# Altium footprint library PcbLib1.PcbLib: 10 footprints
Each footprint in its own frame and in the unit in brackets; x right, y up, seen from the top. Pads: shape width x height; smd on the part's side, far side on the other; paste and mask are expansions set on the pad; w line width, h text height; cw(c..) or ccw(c..) is an arc to the next point about the centre after c.
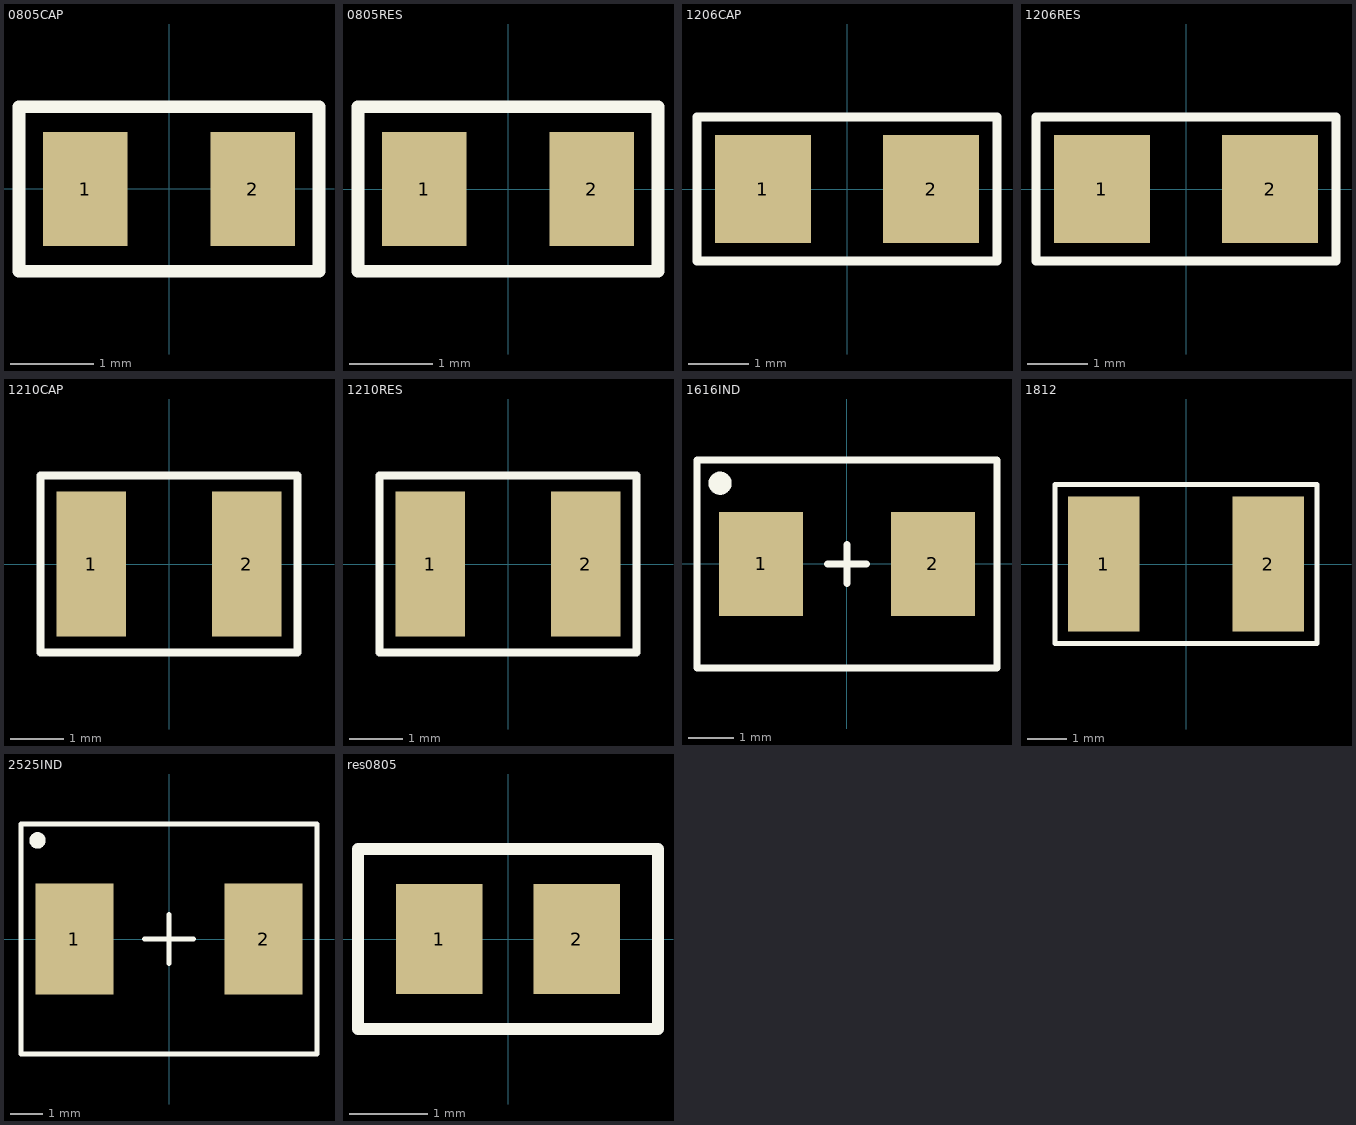
[diagram p0: the footprints below, top view; thin cyan lines are the x and y axes]

## 0805CAP [mil] "Chip Capacitor; Body 2.0 x 1.2 mm (LxW typ)"
height 51.18
pads (2):
  rect 40x54 smd: 1(-39.6,0) 2(39.6,0)
Top Overlay:
  lines w6: -71,-39 -71,39 71,39 71,-39 -71,-39
3D body: height 0, standoff 0, extent -71,-39 71,39
3D body: height 30.79, standoff 0, extent -39.37,-24.6 39.37,24.61

## 0805RES [mil] "Chip Resistor Body 2.0 x 1.2 mm (LxW typ)"
height 25.98
pads (2):
  rect 40x54 smd: 1(-39.6,0) 2(39.6,0)
Top Overlay:
  lines w6: -71,-39 -71,39 71,39 71,-39 -71,-39
3D body: height 18.66, standoff 0, extent -39.37,-24.65 39.37,24.65
3D body: height 0, standoff 0, extent -71,-39 71,39

## 1206CAP [mm] "Chip Capacitor; Body 3.2 x 1.6 mm (LxW typ)"
height 1.5
pads (2):
  rect 1.6x1.8 smd: 1(-1.4,0) 2(1.4,0)
Top Overlay:
  lines w0.152: -2.5,-1.2 2.5,-1.2 2.5,1.2 -2.5,1.2 -2.5,-1.2
3D body: height 1, standoff 0, extent -1.6,-0.8 1.6,0.8

## 1206RES [mm] "Chip Resistor; Body 3.2 x 1.6 mm (LxW typ)"
height 1.5
pads (2):
  rect 1.6x1.8 smd: 1(-1.4,0) 2(1.4,0)
Top Overlay:
  lines w0.152: -2.5,-1.2 2.5,-1.2 2.5,1.2 -2.5,1.2 -2.5,-1.2
3D body: height 1, standoff 0, extent -1.6,-0.8 1.6,0.8

## 1210CAP [mm] "Chip Capacitor; Body 3.2 x 2.5 mm (LxW typ)"
height 1.7
pads (2):
  rect 1.3x2.7 smd: 1(-1.45,0) 2(1.45,0)
Top Overlay:
  lines w0.152: -2.4,-1.65 -2.4,1.65 2.4,1.65 2.4,-1.65 -2.4,-1.65
3D body: height 2.2, standoff 0, extent -1.016,-1.27 1.016,1.27
3D body: height 2.2, standoff 0, extent 1.016,-1.27 1.524,1.27
3D body: height 2.2, standoff 0, extent -1.524,-1.27 -1.016,1.27

## 1210RES [mm] "Chip Capacitor; Body 3.2 x 2.5 mm (LxW typ)"
height 0.61
pads (2):
  rect 1.3x2.7 smd: 1(-1.45,0) 2(1.45,0)
Top Overlay:
  lines w0.152: -2.4,-1.65 2.4,-1.65 2.4,1.65 -2.4,1.65 -2.4,-1.65
3D body: height 2.2, standoff 0, extent -1.524,-1.27 -1.016,1.27
3D body: height 2.2, standoff 0, extent 1.016,-1.27 1.524,1.27
3D body: height 2.2, standoff 0, extent -1.016,-1.27 1.016,1.27

## 1616IND [mil] "VISHAY IHLP Automotive Inductors"
height 47
pads (2):
  rect 73x90 smd: 1(-74.5,0) 2(74.5,0)
Top Overlay:
  circle w10: c-110,70 r5
  lines w6: -17,0 17,0 ; 0,-17 0,17 ; -130,-90 -130,90 130,90 130,-90 -130,-90
Mechanical 30:
  text "Inductor / 1616" at -135,-50 h36
3D body: height 47, standoff 2, extent -80,-80 80,80
3D body: height 37, standoff 1, extent -87,-40 -57,40
3D body: height 37, standoff 1, extent 57,-40 87,40

## 1812 [mm] "Chip Capacitor; Body 4.5 x 3.2 mm (LxW typ)"
height 1.7
pads (2):
  rect 1.8x3.4 smd: 1(-2.075,0) 2(2.075,0)
Top Overlay:
  lines w0.127: -3.3,-2 -3.3,2 3.3,2 3.3,-2 -3.3,-2
3D body: height 1.2, standoff 0.1, extent -2.2,-1.6 2.2,1.6
3D body: height 1.4, standoff 0, extent 2.2,-1.6 2.8,1.6
3D body: height 0, standoff 0, extent -3.3,-2 3.3,2
3D body: height 1.4, standoff 0, extent -2.8,-1.6 -2.2,1.6

## 2525IND [mil] "VISHAY IHLP Automotive Inductors"
height 118
pads (2):
  rect 95x135 smd: 1(-115,0) 2(114.99,-0.01)
Top Overlay:
  circle w10: c-160,120 r5
  lines w6: -30,0 30,0 ; 0,-30 0,30 ; -180,-140 -180,140 180,140 180,-140 -180,-140
Mechanical 30:
  text "Inductor / 2525" at -120,-45 h36
3D body: height 118, standoff 2, extent -125,-125 125,125
3D body: height 100, standoff 1, extent -132,-63 -82,63
3D body: height 100, standoff 1, extent 81.99,-63.01 131.99,62.99

## res0805 [mm] "Standard SMD resistor, Vishay recomaênded land pattern for Reflow."
height 0.457
pads (2):
  rect 1.1x1.4 smd: 1(-0.875,0) 2(0.875,0)
Top Overlay:
  lines w0.152: -1.905,-1.143 -1.905,1.143 1.905,1.143 1.905,-1.143 -1.905,-1.143
3D body: height 0.46, standoff 0.03, extent 0.381,-0.635 1.016,0.635
3D body: height 0.46, standoff 0.03, extent -0.381,-0.635 0.381,0.635
3D body: height 0.46, standoff 0.03, extent -1.016,-0.635 -0.381,0.635